# EAGLE library part MAX2510 (library Mine)
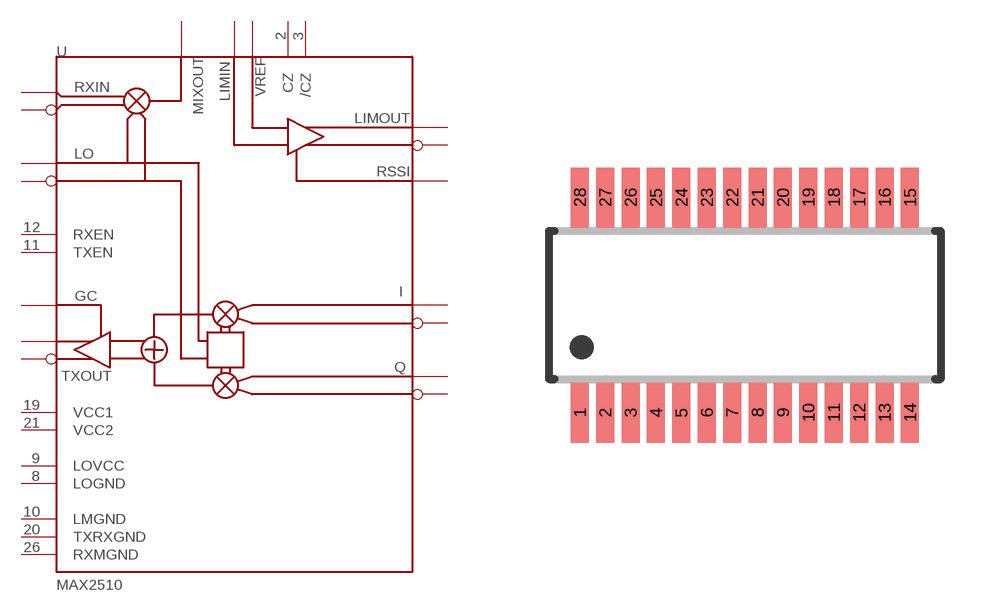
[diagram p43: symbol with the pads of QSOP28; footprint QSOP28]

Designator prefix -

## MAX2510  [QSOP28]
1  LIMIN  in
2  CZ
3  /CZ
4  RSSI  out
5  GC  in
6  LO  in
7  /LO  in
8  LOGND  sup
9  LOVCC  sup
10  LMGND  sup
11  TXEN  in
12  RXEN  in
13  LIMOUT  out
14  /LIMOUT  out
15  I  in
16  /I  in
17  Q  in
18  /Q  in
19  VCC1  sup
20  TXRXGND  sup
21  VCC2  sup
22  /RXIN  in
23  /TXOUT  out
24  TXOUT  out
25  RXIN  in
26  RXMGND  sup
27  MIXOUT  out
28  VREF  in

## Footprint QSOP28 (pad centres in mm)
smd 0.45 x 1.5: 1 -2.54,-2.373; 2 -1.905,-2.373; 3 -1.27,-2.373; 4 -0.635,-2.373; 5 0,-2.373; 6 0.635,-2.373; 7 1.27,-2.373; 8 1.905,-2.373; 9 2.54,-2.373; 10 3.175,-2.373; 11 3.81,-2.373; 12 4.445,-2.373; 13 5.08,-2.373; 14 5.715,-2.373; 15 5.715,3.007; 16 5.08,3.007; 17 4.445,3.007; 18 3.81,3.007; 19 3.175,3.007; 20 2.54,3.007; 21 1.905,3.007; 22 1.27,3.007; 23 0.635,3.007; 24 0,3.007; 25 -0.635,3.007; 26 -1.27,3.007; 27 -1.905,3.007; 28 -2.54,3.007